# Altium footprint library Sub1G_V2.2_ZM_revA_20160823.PcbLib: 21 footprints (part 2 of 2)
Each footprint in its own frame and in the unit in brackets; x right, y up, seen from the top. Pads: shape width x height; smd on the part's side, far side on the other; paste and mask are expansions set on the pad; w line width, h text height; cw(c..) or ccw(c..) is an arc to the next point about the centre after c.
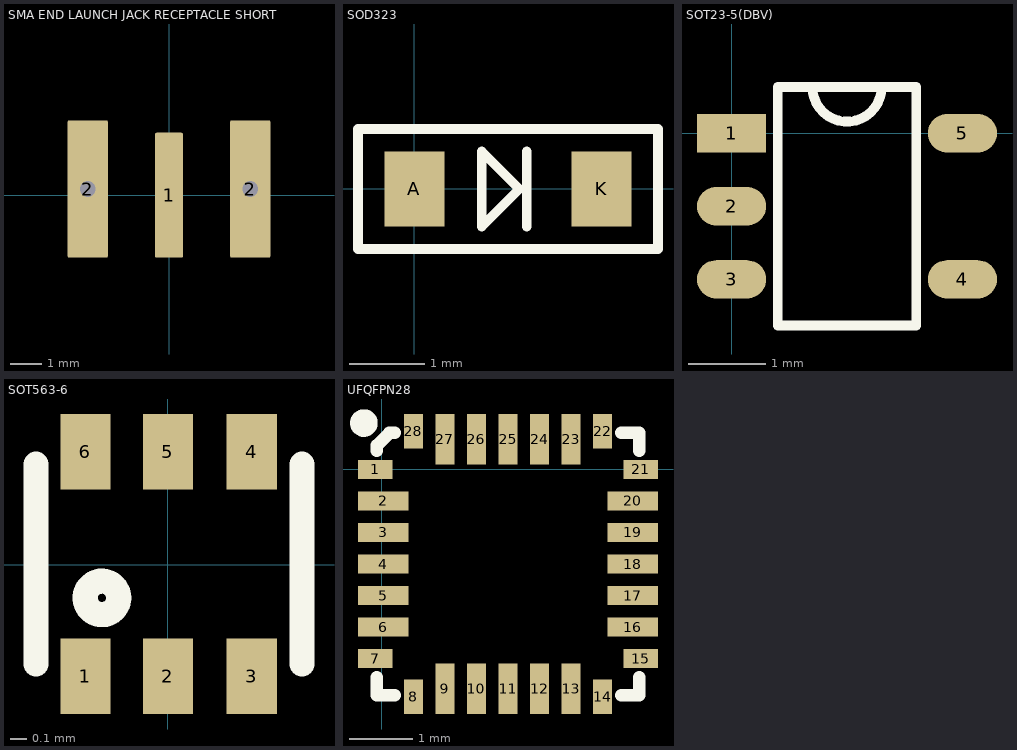
[diagram p1: the footprints below, top view; thin cyan lines are the x and y axes]

## SMA END LAUNCH JACK RECEPTACLE SHORT [mm] "SMA Connector - End Launch Jack Receptacle - Short"
height 8
pads (3):
  rrect10% 0.9x4 smd paste+0 mask+0.05: 1(0,0)
  rrect10% 1.3x4.4 hole 0.5 mask+0.05: 2(-2.6,0.2) 2(2.6,0.2)
3D body: height 8, standoff 0, extent -0.5,-2.05 0.5,2.05

## SOD323 [mm]
pads (2):
  rect 0.8x1 smd: A(0,0) K(2.5,0)
Top Overlay:
  lines w0.127: 1.5,-0.5 1.5,0.5 ; -0.75,-0.8 -0.75,0.8 3.25,0.8 3.25,-0.8 -0.75,-0.8 ; 0.9,-0.5 1.4,0 0.9,0.5 0.9,-0.5

## SOT23-5(DBV) [mm]
pads (5):
  rect 0.9x0.5 smd: 1(0,0)
  oval 0.9x0.5 smd: 2(0,-0.95) 3(0,-1.9) 4(3,-1.9) 5(3,0)
Top Overlay:
  lines w0.127: 1.05,0.6 ccw(c1.5,0.6) 1.95,0.6 ; 0.6,-2.5 0.6,0.6 2.4,0.6 2.4,-2.5 0.6,-2.5

## SOT563-6 [mil] "SOT563-6"
pads (6):
  rect 12x18 smd: 1(-19.68,-26.57) 2(0,-26.57) 3(20,-26.57) 4(20,27) 5(0,27) 6(-19.68,27)
Top Overlay:
  circle w6: c-15.75,-7.87 r4
  lines w6: -31.5,-23.62 -31.5,24 ; 32,-23.62 32,24

## UFQFPN28 [mm]
pads (28):
  rect 0.55x0.3 smd: 1(-0.1,0) 7(-0.1,-3) 15(4.11,-3) 21(4.11,0)
  rect 0.8x0.3 smd: 2(0.025,-0.5) 3(0.025,-1) 4(0.025,-1.5) 5(0.025,-2) 6(0.025,-2.5) 16(3.985,-2.5) 17(3.985,-2) 18(3.985,-1.5) 19(3.985,-1) 20(3.985,-0.5)
  rect 0.3x0.55 smd: 8(0.505,-3.605) 14(3.505,-3.605) 22(3.505,0.605) 28(0.505,0.605)
  rect 0.3x0.8 smd: 9(1.005,-3.48) 10(1.505,-3.48) 11(2.005,-3.48) 12(2.505,-3.48) 13(3.005,-3.48) 23(3.005,0.48) 24(2.505,0.48) 25(2.005,0.48) 26(1.505,0.48) 27(1.005,0.48)
Top Overlay:
  circle w0.254: c-0.281,0.737 r0.092
  lines w0.2: -0.075,-3.3 -0.075,-3.58 0.205,-3.58 ; -0.075,0.3 -0.075,0.38 0.125,0.58 0.205,0.58 ; 3.805,-3.58 4.085,-3.58 4.085,-3.3 ; 3.805,0.58 4.085,0.58 4.085,0.3